# EAGLE library part W5500 (library w5500_wiznet)
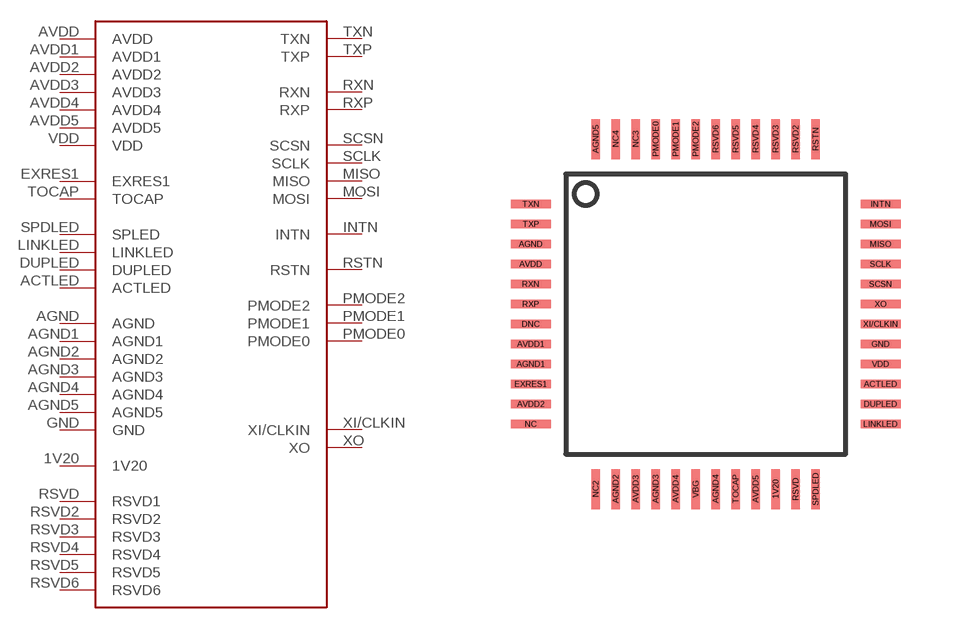
[diagram p0: symbol with the pads of W5500; footprint W5500]

Designator prefix -

## W5500  [W5500]
1V20  1V20
ACTLED  ACTLED
AGND  AGND
AGND1  AGND1
AGND2  AGND2
AGND3  AGND3
AGND4  AGND4
AGND5  AGND5
AVDD  AVDD
AVDD1  AVDD1
AVDD2  AVDD2
AVDD3  AVDD3
AVDD4  AVDD4
AVDD5  AVDD5
DUPLED  DUPLED
EXRES1  EXRES1
GND  GND
INTN  INTN
LINKLED  LINKLED
MISO  MISO
MOSI  MOSI
PMODE0  PMODE0
PMODE1  PMODE1
PMODE2  PMODE2
RSTN  RSTN
RSVD  RSVD1
RSVD2  RSVD2
RSVD3  RSVD3
RSVD4  RSVD4
RSVD5  RSVD5
RSVD6  RSVD6
RXN  RXN
RXP  RXP
SCLK  SCLK
SCSN  SCSN
SPDLED  SPLED
TOCAP  TOCAP
TXN  TXN
TXP  TXP
VDD  VDD
XI/CLKIN  XI/CLKIN
XO  XO

## Footprint W5500 (pad centres in mm)
W5500 TCP IP chip from wiznet
smd 0.22 x 1: 1V20 1.75,-4.375; AGND2 -2.25,-4.375; AGND3 -1.25,-4.375; AGND4 0.25,-4.375; AGND5 -2.75,4.375; AVDD3 -1.75,-4.375; AVDD4 -0.75,-4.375; AVDD5 1.25,-4.375; NC2 -2.75,-4.375; NC3 -1.75,4.375; NC4 -2.25,4.375; PMODE0 -1.25,4.375; PMODE1 -0.75,4.375; PMODE2 -0.25,4.375; RSTN 2.75,4.375; RSVD 2.25,-4.375; RSVD2 2.25,4.375; RSVD3 1.75,4.375; RSVD4 1.25,4.375; RSVD5 0.75,4.375; RSVD6 0.25,4.375; SPDLED 2.75,-4.375; TOCAP 0.75,-4.375; VBG -0.25,-4.375
smd 1 x 0.22: ACTLED 4.375,-1.75; AGND -4.375,1.75; AGND1 -4.375,-1.25; AVDD -4.375,1.25; AVDD1 -4.375,-0.75; AVDD2 -4.375,-2.25; DNC -4.375,-0.25; DUPLED 4.375,-2.25; EXRES1 -4.375,-1.75; GND 4.375,-0.75; INTN 4.375,2.75; LINKLED 4.375,-2.75; MISO 4.375,1.75; MOSI 4.375,2.25; NC -4.375,-2.75; RXN -4.375,0.75; RXP -4.375,0.25; SCLK 4.375,1.25; SCSN 4.375,0.75; TXN -4.375,2.75; TXP -4.375,2.25; VDD 4.375,-1.25; XI/CLKIN 4.375,-0.25; XO 4.375,0.25